# Altium schematic symbol library BMP280_Purple.SchLib: 1 symbol
Pins are listed as number, name and electrical type; pins without a type are passive.

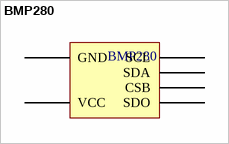
[diagram p0: symbol BMP280]

## BMP280
designator BMP280  (value not drawn)
BMP280 Pressure- and Temperaturesensor.
footprint BMP280 (BMP280 Pressure- and Temperaturesensor. Purple Board.)
pins: CSB, GND, SCL, SDA, SDO, VCC